# Altium footprint library PcbLib1.PcbLib: 17 footprints (part 1 of 2)
Each footprint in its own frame and in the unit in brackets; x right, y up, seen from the top. Pads: shape width x height; smd on the part's side, far side on the other; paste and mask are expansions set on the pad; w line width, h text height; cw(c..) or ccw(c..) is an arc to the next point about the centre after c.
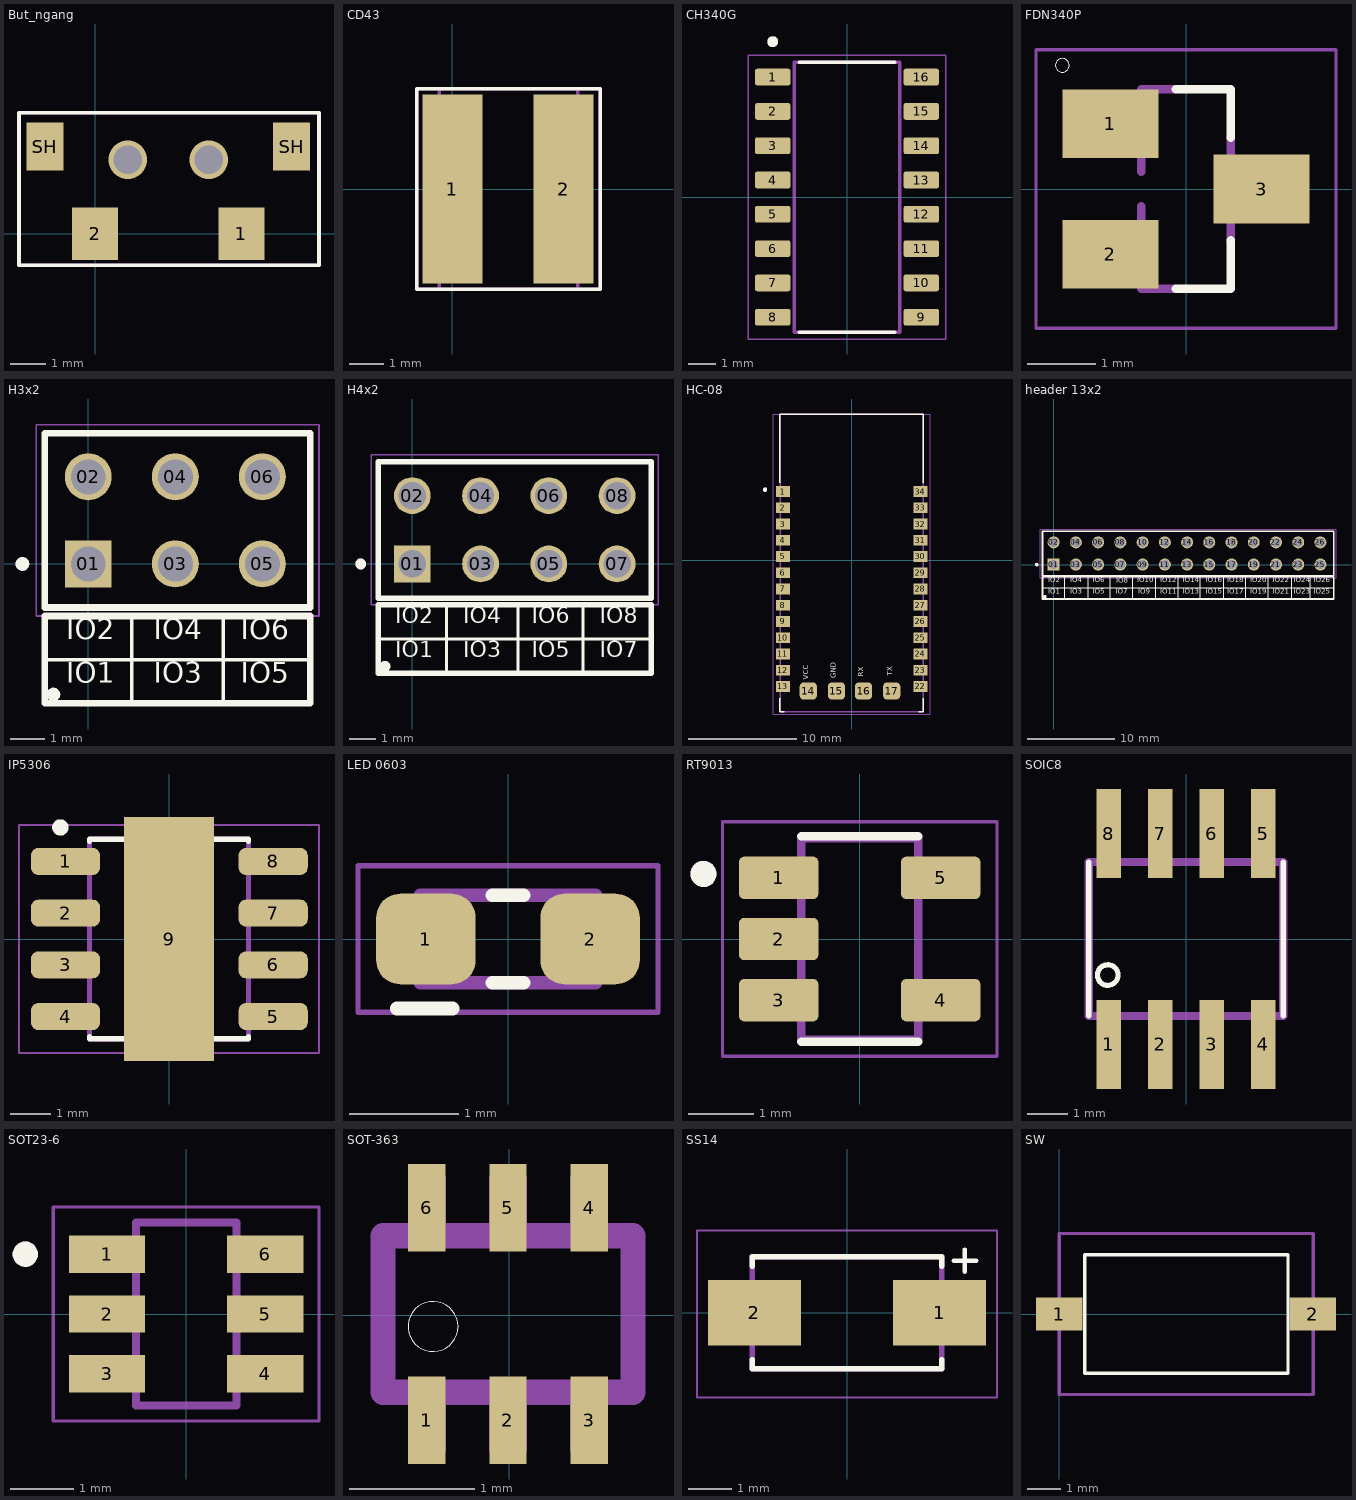
[diagram p0: the footprints below, top view; thin cyan lines are the x and y axes]

## But_ngang [mm]
pads (4):
  rect 1.3x1.5 smd: 1(4.15,0) 2(0,0)
  rect 1.05x1.35 smd: SH(-1.425,2.475) SH(5.575,2.475)
via 3.225,2.1 diameter 1.1 hole 0.8
via 0.925,2.1 diameter 1.1 hole 0.8
Top Overlay:
  lines w0.1: -2.159,-0.889 6.35,-0.889 6.35,3.429 -2.159,3.429 -2.159,-0.889
Mechanical 15 (Mech15):
  lines w0.1: -2.159,-0.889 6.35,-0.889 6.35,3.429 -2.159,3.429 -2.159,-0.889

## CD43 [mm]
pads (2):
  rect 1.75x5.5 smd: 1(0,0) 2(3.25,0)
Top Overlay:
  lines w0.1: -1.041,-2.921 4.318,-2.921 4.318,2.921 -1.041,2.921 -1.041,-2.921
Mechanical 13:
  lines w0.1: -0.381,-2.921 3.658,-2.921 3.658,2.921 -0.381,2.921 -0.381,-2.921
Mechanical 15 (Mech15):
  lines w0.1: -1.041,-2.921 4.318,-2.921 4.318,2.921 -1.041,2.921 -1.041,-2.921
3D body "SPM6530.step": height 3, standoff 0, extent -2.066,-3.371 5.334,3.429

## CH340G [mm]
pads (16):
  rrect25% 1.31x0.62 smd: 1(-2.75,4.445) 2(-2.75,3.175) 3(-2.75,1.905) 4(-2.75,0.635) 5(-2.75,-0.635) 6(-2.75,-1.905) 7(-2.75,-3.175) 8(-2.75,-4.445) 9(2.75,-4.445) 10(2.75,-3.175) 11(2.75,-1.905) 12(2.75,-0.635) 13(2.75,0.635) 14(2.75,1.905) 15(2.75,3.175) 16(2.75,4.445)
Top Overlay:
  circle w0.2: c-2.75,5.755 r0.1
  lines w0.127: -1.775,-5 1.775,-5 ; -1.775,5 1.775,5
Mechanical 13:
  circle w0.2: c-2.75,5.755 r0.1
  lines w0.127: -1.95,-5 1.95,-5 1.95,5 -1.95,5 -1.95,-5
Mechanical 15 (Mech15):
  lines w0.05: -3.655,-5.25 3.655,-5.25 3.655,5.25 -3.655,5.25 -3.655,-5.25
3D body "step_temp.STEP": height 1.8, standoff 0, extent -3,-5 3,5

## FDN340P [mm]
pads (3):
  rect 1.4x1 smd: 1(-1.1,0.95) 2(-1.1,-0.95) 3(1.1,0)
Top Overlay:
  circle w0: c-1.8,1.8 r0.1
  lines w0.127: -0.15,-1.45 0.65,-1.45 0.65,-0.75 ; -0.15,1.45 0.65,1.45 0.65,0.75
Mechanical 13:
  region: -0.712,0.711 -1.296,0.711 -1.296,1.169 -0.712,1.169
  region: -0.711,-1.17 -1.297,-1.17 -1.297,-0.711 -0.711,-0.711
  region: 1.296,-0.228 0.711,-0.228 0.711,0.228 1.296,0.228
  lines w0.127: -0.65,-0.25 -0.65,-1.45 -0.15,-1.45 ; -0.65,0.25 -0.65,1.45 -0.15,1.45 ; 0.65,-0.75 0.65,0.75
Mechanical 15 (Mech15):
  lines w0.051: -2.183,-2.023 2.183,-2.023 2.183,2.023 -2.183,2.023 -2.183,-2.023
3D body "SOT23-3.stp": height 1.2, standoff 0.02, extent -1.418,-1.5 1.418,1.5

## H3x2 [mm]
pads (6):
  rect 1.37x1.37 hole 1.02: 01(0,0)
  round 1.37 hole 1.02: 02(0,2.54) 03(2.54,0) 04(2.54,2.54) 05(5.08,0) 06(5.08,2.54)
Top Overlay:
  circle w0.2: c-1.92,0 r0.1
  circle w0.2: c-1.016,-3.81 r0.1
  lines w0.1: -1.27,-2.794 6.477,-2.794 ; 1.27,-4.064 1.27,-1.524 ; 3.937,-4.064 3.937,-1.524
  lines w0.2: -1.27,-4.064 -1.27,-1.524 6.477,-1.524 6.477,-4.064 -1.27,-4.064 ; -1.27,-1.27 -1.27,3.81 6.477,3.81 6.477,-1.27 -1.27,-1.27
  text "IO5" at 4.445,-3.675 h1.02
  text "IO6" at 4.445,-2.405 h1.02
  text "IO3" at 1.905,-3.675 h1.02
  text "IO4" at 1.905,-2.405 h1.02
  text "IO2" at -0.635,-2.405 h1.02
  text "IO1" at -0.635,-3.675 h1.02
Mechanical 13:
  circle w0.2: c-1.92,0 r0.1
  lines w0.1: 6.223,3.81 -1.27,3.81 ; -1.27,-1.27 -1.27,3.81 ; -1.27,-1.27 -1.27,3.81 ; -1.27,-1.27 6.477,-1.27 6.477,3.81 -1.27,3.81
Mechanical 15 (Mech15):
  lines w0.05: -1.52,-1.52 -1.52,4.06 6.731,4.06 6.731,-1.52 -1.52,-1.52
3D body "Pin Header 1x3 TH Pitch 2.54mm.stp": height 9.5, standoff -3.2, extent -1.143,1.27 6.477,3.81
3D body "Pin Header 1x3 TH Pitch 2.54mm.stp": height 9.5, standoff -3.2, extent -1.27,-1.27 6.35,1.27

## H4x2 [mm]
pads (8):
  rect 1.37x1.37 hole 1.02: 01(0,0)
  round 1.37 hole 1.02: 02(0,2.54) 03(2.54,0) 04(2.54,2.54) 05(5.08,0) 06(5.08,2.54) 07(7.62,0) 08(7.62,2.54)
Top Overlay:
  circle w0.2: c-1.016,-3.81 r0.1
  circle w0.2: c-1.92,0 r0.1
  lines w0.1: -1.27,-2.794 8.89,-2.794 ; 1.27,-4.064 1.27,-1.524 ; 3.937,-4.064 3.937,-1.524 ; 6.35,-4.064 6.35,-1.524
  lines w0.2: -1.27,-4.064 -1.27,-1.524 8.89,-1.524 8.89,-4.064 -1.27,-4.064 ; -1.27,-1.27 -1.27,3.81 8.89,3.81 8.89,-1.27 -1.27,-1.27
  text "IO1" at -0.635,-3.675 h1.02
  text "IO2" at -0.635,-2.405 h1.02
  text "IO4" at 1.905,-2.405 h1.02
  text "IO3" at 1.905,-3.675 h1.02
  text "IO6" at 4.445,-2.405 h1.02
  text "IO5" at 4.445,-3.675 h1.02
  text "IO7" at 6.985,-3.675 h1.02
  text "IO8" at 6.985,-2.405 h1.02
Mechanical 13:
  circle w0.2: c-1.92,0 r0.1
  lines w0.1: 6.223,3.81 -1.27,3.81 ; -1.27,-1.27 8.89,-1.27 8.89,3.81 -1.27,3.81 ; -1.27,-1.27 -1.27,3.81 ; -1.27,-1.27 -1.27,3.81
Mechanical 15 (Mech15):
  lines w0.05: -1.52,-1.52 -1.52,4.06 9.144,4.06 9.144,-1.52 -1.52,-1.52
3D body "Pin Header 1x4 TH Pitch 2.54mm.stp": height 9.5, standoff -3.2, extent -1.27,1.27 8.89,3.81
3D body "Pin Header 1x4 TH Pitch 2.54mm.stp": height 9.5, standoff -3.2, extent -1.27,-1.27 8.89,1.27

## HC-08 [mm]
pads (30):
  rect 1.3x1 smd: 1(-6.35,6.325) 2(-6.35,4.825) 3(-6.35,3.325) 4(-6.35,1.825) 5(-6.35,0.325) 6(-6.35,-1.175) 7(-6.35,-2.675) 8(-6.35,-4.175) 9(-6.35,-5.675) 10(-6.35,-7.175) 11(-6.35,-8.675) 12(-6.35,-10.175) 13(-6.35,-11.675) 22(6.35,-11.675) 23(6.35,-10.175) 24(6.35,-8.675) 25(6.35,-7.175) 26(6.35,-5.675) 27(6.35,-4.175) 28(6.35,-2.675) 29(6.35,-1.175) 30(6.35,0.325) 31(6.35,1.825) 32(6.35,3.325) 33(6.35,4.825) 34(6.35,6.325)
  rrect50% 1.6x1.6 smd: 14(-4,-12.1) 15(-1.4,-12.1) 16(1.1,-12.1) 17(3.7,-12.1)
Top Overlay:
  circle w0.2: c-8,6.5 r0.1
  lines w0.127: -6.629,-12.774 -6.629,-13.995 -6.22,-13.995 ; -6.629,7.145 -6.629,13.462 6.604,13.462 6.604,7.145 ; 6.22,-13.995 6.604,-13.995 6.604,-12.774
  text "GND" at -1.276,-10.922 h0.8
  text "VCC" at -3.815,-11.049 h0.8
  text "TX" at 3.937,-10.668 h0.8
  text "RX" at 1.27,-10.795 h0.8
Mechanical 13:
  circle w0.2: c-8,6.5 r0.1
  lines w0.127: -6.604,-13.995 6.604,-13.995 6.604,13.462 -6.604,13.462 -6.604,-13.995
Mechanical 15 (Mech15):
  lines w0.05: -7.25,-14.224 -7.25,13.487 7.25,13.487 7.25,-14.224 -7.25,-14.224
Multi-Layer:
  pour cut-out: -6.629,7.145 -6.629,13.462 6.604,13.462 6.604,7.145
3D body "hc-08 .step": height 1.7, standoff -0.1, extent -6.55,-13.956 6.55,13.244

## header 13x2 [mm]
pads (26):
  rect 1.37x1.37 hole 1.02: 01(0,0)
  round 1.37 hole 1.02: 02(0,2.54) 03(2.54,0) 04(2.54,2.54) 05(5.08,0) 06(5.08,2.54) 07(7.62,0) 08(7.62,2.54) 09(10.16,0) 10(10.16,2.54) 11(12.7,0) 12(12.7,2.54) 13(15.24,0) 14(15.24,2.54) 15(17.78,0) 16(17.78,2.54) 17(20.32,0) 18(20.32,2.54) 19(22.86,0) 20(22.86,2.54) 21(25.4,0) 22(25.4,2.54) 23(27.94,0) 24(27.94,2.54) 25(30.48,0) 26(30.48,2.54)
Top Overlay:
  circle w0.2: c-1.92,0 r0.1
  circle w0.2: c-1.016,-3.683 r0.1
  lines w0.1: -1.27,-2.667 6.477,-2.667 14.224,-2.667 21.971,-2.667 29.718,-2.667 32.004,-2.667 ; 1.27,-3.937 1.27,-1.397 ; 3.937,-3.937 3.937,-1.397 ; 6.477,-3.937 6.477,-1.397 ; 9.017,-3.937 9.017,-1.397 ; 11.684,-3.937 11.684,-1.397 ; 14.224,-3.937 14.224,-1.397 ; 16.764,-3.937 16.764,-1.397 ; 19.431,-3.937 19.431,-1.397 ; 21.971,-3.937 21.971,-1.397 ; 24.511,-3.937 24.511,-1.397 ; 27.178,-3.937 27.178,-1.397 ; 29.337,-3.937 29.337,-1.397 ; 32.004,-3.937 32.004,-1.397
  lines w0.2: -1.27,-3.937 -1.27,-1.397 32.004,-1.397 32.004,-3.937 -1.27,-3.937 ; -1.27,-1.27 -1.27,3.81 32.004,3.81 32.004,-1.27 -1.27,-1.27
  text "IO1" at -0.635,-3.548 h1.02
  text "IO2" at -0.635,-2.278 h1.02
  text "IO4" at 1.905,-2.278 h1.02
  text "IO3" at 1.905,-3.548 h1.02
  text "IO6" at 4.445,-2.278 h1.02
  text "IO5" at 4.445,-3.548 h1.02
  text "IO7" at 7.112,-3.548 h1.02
  text "IO9" at 9.652,-3.548 h1.02
  text "IO10" at 9.525,-2.278 h1.02
  text "IO8" at 7.134,-2.308 h1.02
  text "IO12" at 12.192,-2.278 h1.02
  text "IO11" at 12.192,-3.548 h1.02
  text "IO14" at 14.732,-2.278 h1.02
  text "IO13" at 14.732,-3.548 h1.02
  text "IO16" at 17.399,-2.278 h1.02
  text "IO15" at 17.399,-3.548 h1.02
  text "IO17" at 19.812,-3.548 h1.02
  text "IO18" at 19.812,-2.278 h1.02
  text "IO20" at 22.479,-2.278 h1.02
  text "IO19" at 22.479,-3.548 h1.02
  text "IO22" at 25.019,-2.278 h1.02
  text "IO21" at 25.019,-3.548 h1.02
  text "IO24" at 27.432,-2.278 h1.02
  text "IO23" at 27.432,-3.548 h1.02
  text "IO26" at 29.718,-2.278 h1.02
  text "IO25" at 29.718,-3.548 h1.02
Mechanical 13:
  circle w0.2: c-1.92,0 r0.1
  lines w0.1: -1.27,-1.27 32.004,-1.27 ; -1.27,-1.27 -1.27,3.81 ; -1.27,-1.27 -1.27,3.81 ; -1.27,3.81 32.004,3.81 ; -1.27,3.81 32.004,3.81 ; 32.004,-1.27 32.004,3.81 ; 32.004,-1.27 32.004,3.81
Mechanical 15 (Mech15):
  lines w0.05: -1.52,-1.52 -1.52,4.06 32.258,4.06 32.258,-1.52 -1.52,-1.52
3D body "Pin Header 1x13 TH Pitch 2.54mm.stp": height 9.5, standoff -3.2, extent -1.27,1.27 31.75,3.81
3D body "Pin Header 1x13 TH Pitch 2.54mm.stp": height 9.5, standoff -3.2, extent -1.27,-1.27 31.75,1.27

## IP5306 [mm]
pads (9):
  rrect54% 1.7x0.66 smd: 1(-2.54,1.905) 2(-2.54,0.635) 3(-2.54,-0.635) 4(-2.54,-1.905) 5(2.557,-1.905) 6(2.557,-0.635) 7(2.557,0.635) 8(2.557,1.905)
  rect 2.2x6 smd paste-3: 9(0,0)
Top Overlay:
  circle w0.2: c-2.667,2.74 r0.1
  lines w0.127: -1.95,-2.4 -1.95,-2.45 1.95,-2.45 1.95,-2.4 ; -1.95,2.4 -1.95,2.45 1.95,2.45 1.95,2.4
Top Paste:
  region: 0.935,0.135 0.135,0.135 0.135,1.375 0.935,1.375
  region: 0.935,-1.375 0.135,-1.375 0.135,-0.135 0.935,-0.135
  region: -0.135,-1.375 -0.935,-1.375 -0.935,-0.135 -0.135,-0.135
  region: -0.135,0.135 -0.935,0.135 -0.935,1.375 -0.135,1.375
Mechanical 13:
  lines w0.127: -1.95,-2.45 1.95,-2.45 1.95,2.45 -1.95,2.45 -1.95,-2.45
Mechanical 15 (Mech15):
  lines w0.05: -3.683,-2.794 3.683,-2.794 3.683,2.794 -3.683,2.794 -3.683,-2.794
3D body "step_temp.STEP": height 1.75, standoff 0, extent -3,-2.45 3,2.45

## LED 0603 [mm]
pads (2):
  rrect53% 0.91x0.83 smd: 1(-0.75,0) 2(0.75,0)
Top Overlay:
  lines w0.127: -1.016,-0.635 -0.508,-0.635 ; -0.14,-0.4 0.14,-0.4 ; -0.14,0.4 0.14,0.4
Mechanical 13:
  lines w0.127: -0.8,-0.4 0.8,-0.4 0.8,0.4 -0.8,0.4 -0.8,-0.4
Mechanical 15 (Mech15):
  lines w0.05: -1.37,-0.67 1.37,-0.67 1.37,0.67 -1.37,0.67 -1.37,-0.67
3D body "0603 Chip SMD LED (1.6x0.8mm).x_t": height 0.55, standoff -0.03, extent -0.8,-0.4 0.8,0.4

## RT9013 [mm]
pads (5):
  rrect25% 1.22x0.65 smd: 1(-1.245,0.94) 2(-1.245,0) 3(-1.245,-0.94) 4(1.245,-0.94) 5(1.245,0.94)
Top Overlay:
  circle w0.2: c-2.4,1 r0.1
  lines w0.127: -0.9,-1.579 0.9,-1.579 ; -0.9,1.579 0.9,1.579
Mechanical 13:
  circle w0.2: c-2.4,1 r0.1
  lines w0.127: -0.9,-1.55 -0.9,1.55 0.9,1.55 0.9,-1.55 -0.9,-1.55
Mechanical 15 (Mech15):
  lines w0.05: -2.11,-1.8 -2.11,1.8 2.11,1.8 2.11,-1.8 -2.11,-1.8
3D body "SOT23-5.stp": height 1.2, standoff 0.02, extent -1.418,-1.5 1.418,1.5

## SOIC8 [mm]
pads (8):
  rect 0.6x2.2 smd: 1(-1.905,-2.6) 2(-0.635,-2.6) 3(0.635,-2.6) 4(1.905,-2.6) 5(1.905,2.6) 6(0.635,2.6) 7(-0.635,2.6) 8(-1.905,2.6)
Top Overlay:
  circle w0.127: c-1.93,-0.889 r0.254
  lines w0.127: -2.4,-1.9 -2.4,1.9 ; 2.4,-1.9 2.4,1.9
Mechanical 13:
  region: -1.66,-3.1 -2.15,-3.1 -2.15,-2 -1.66,-2
  region: -0.39,-3.1 -0.88,-3.1 -0.88,-2 -0.39,-2
  region: 0.88,-3.1 0.39,-3.1 0.39,-2 0.88,-2
  region: 2.15,-3.1 1.66,-3.1 1.66,-2 2.15,-2
  region: 2.15,2 1.66,2 1.66,3.1 2.15,3.1
  region: 0.88,2 0.39,2 0.39,3.1 0.88,3.1
  region: -0.39,2 -0.88,2 -0.88,3.1 -0.39,3.1
  region: -1.66,2 -2.15,2 -2.15,3.1 -1.66,3.1
  lines w0.203: -2.4,-1.9 2.4,-1.9 2.4,-1.4 2.4,1.9 -2.4,1.9 -2.4,-1.4 -2.4,-1.9
3D body "step_temp.STEP": height 1.75, standoff 0, extent -2.45,-3 2.45,3

## SOT23-6 [mm]
pads (6):
  rect 1.21x0.59 smd: 1(-1.255,0.95) 2(-1.255,0) 3(-1.255,-0.95) 4(1.255,-0.95) 5(1.255,0) 6(1.255,0.95)
Top Overlay:
  circle w0.2: c-2.555,0.95 r0.1
Mechanical 13:
  circle w0.2: c-2.555,0.95 r0.1
  lines w0.127: -0.8,-1.45 0.8,-1.45 0.8,1.45 -0.8,1.45 -0.8,-1.45
Mechanical 15 (Mech15):
  lines w0.05: -2.11,-1.7 -2.11,1.7 2.11,1.7 2.11,-1.7 -2.11,-1.7
3D body "step_temp.STEP": height 1.45, standoff 0, extent -1.4,-1.45 1.4,1.45

## SOT-363 [mm]
pads (6):
  rect 0.3x0.7 smd: 1(-0.659,-0.841) 2(-0.009,-0.841) 3(0.641,-0.841) 4(0.641,0.859) 5(-0.009,0.859) 6(-0.659,0.859)
Top Overlay:
  circle w0: c-0.609,-0.091 r0.2
Mechanical 13:
  region: -0.509,-1.091 -0.809,-1.091 -0.809,-0.591 -0.509,-0.591
  region: 0.141,-1.091 -0.159,-1.091 -0.159,-0.591 0.141,-0.591
  region: 0.791,-1.091 0.491,-1.091 0.491,-0.591 0.791,-0.591
  region: 0.791,0.609 0.491,0.609 0.491,1.109 0.791,1.109
  region: 0.141,0.609 -0.159,0.609 -0.159,1.109 0.141,1.109
  region: -0.509,0.609 -0.809,0.609 -0.809,1.109 -0.509,1.109
  lines w0.203: -1.009,-0.616 0.991,-0.616 0.991,0.634 -1.009,0.634 -1.009,-0.616
3D body "74LVC2G17GW,125.STEP": height 1.1, standoff 0, extent -1,-1.05 1,1.05

## SS14 [mm]
pads (2):
  rect 2.12x1.5 smd: 1(2.115,0) 2(-2.115,0)
Top Overlay:
  lines w0.102: 2.438,1.194 2.946,1.194 ; 2.692,0.94 2.692,1.448
  lines w0.127: -2.165,-1.07 -2.165,-1.28 2.165,-1.28 2.165,-1.07 ; -2.165,1.07 -2.165,1.28 2.165,1.28 2.165,1.07
Mechanical 13:
  lines w0.127: -2.165,-1.28 2.165,-1.28 2.165,1.28 -2.165,1.28 -2.165,-1.28
Mechanical 15 (Mech15):
  lines w0.05: -3.425,-1.93 3.425,-1.93 3.425,1.88 -3.425,1.88 -3.425,-1.93
3D body "SS14L.STEP": height 2.65, standoff 0, extent -2.645,-1.838 2.695,1.787

## SW [mm]
pads (2):
  rect 1.4x1 smd: 1(0,0) 2(7.6,0)
Top Overlay:
  lines w0.1: 0.762,-1.778 6.858,-1.778 6.858,1.778 0.762,1.778 0.762,-1.778
Mechanical 13:
  lines w0.1: 0,-2.413 7.62,-2.413 7.62,2.413 0,2.413 0,-2.413
Mechanical 15 (Mech15):
  lines w0.1: 0,-2.413 7.62,-2.413 7.62,2.413 0,2.413 0,-2.413